# EAGLE library part SST25VF020B (library ck_custom)
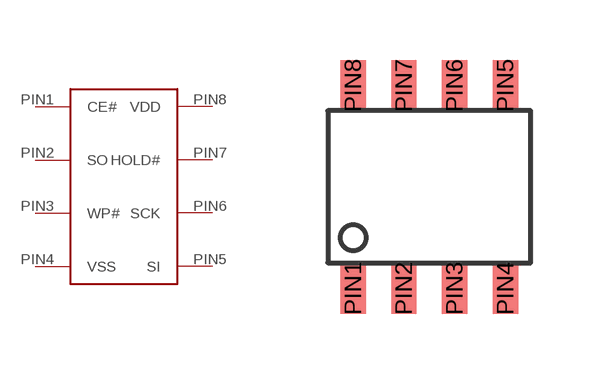
[diagram p2: symbol with the pads of SOIC8; footprint SOIC8]

Designator prefix -

## SST25VF020B  [SOIC8]
PIN1  CE#
PIN2  SO
PIN3  WP#
PIN4  VSS
PIN5  SI
PIN6  SCK
PIN7  HOLD#
PIN8  VDD

## Footprint SOIC8 (pad centres in mm)
SOIC8 package type.
smd 0.635 x 1.27: PIN1 0.635,-0.635; PIN2 1.905,-0.635; PIN3 3.175,-0.635; PIN4 4.445,-0.635; PIN5 4.445,4.445; PIN6 3.175,4.445; PIN7 1.905,4.445; PIN8 0.635,4.445